# Altium schematic symbol library Connectors Molex.SchLib: 121 symbols (part 2 of 2)
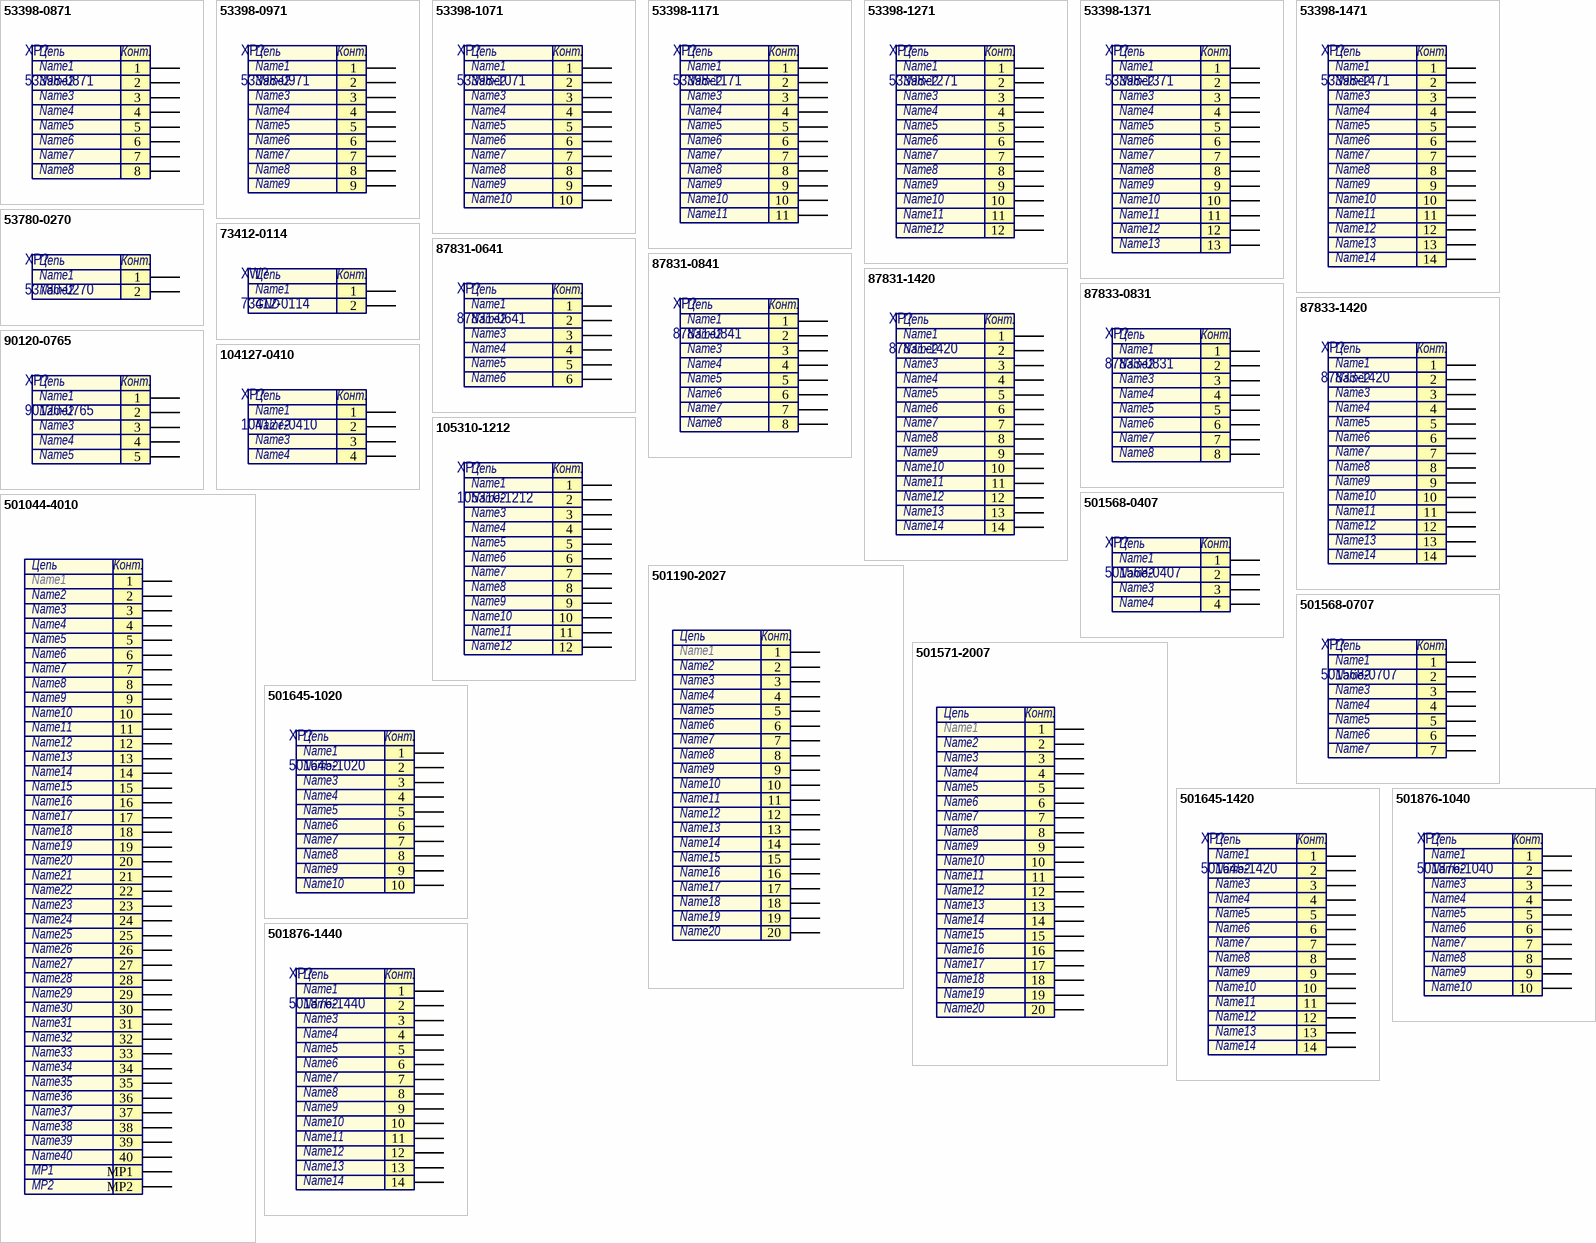
[diagram p4: symbols 53398-0871 to 501876-1440]

## 53398-1371
designator XP?  Net_name1: Name1  Net_name2: Name2  Net_name3: Name3  Net_name4: Name4  Net_name5: Name5  Net_name6: Name6  Net_name7: Name7  Net_name8: Name8  Net_name9: Name9  Net_name10: Name10  Net_name11: Name11  Net_name12: Name12  Net_name13: Name13
CONN HEADER 13POS 1.25MM VERT SMD; Manufacturer: Molex Inc; Library: Connectors Molex; Group: 9375; RegulationProcent: 10; TypeName: Вилка; Distributor: Digi-Key; DistributorPartNumber: WM7617CT-ND; LatestRevisionDate: 20.12.2014; ManufacturerPartNumber: 53398-1371; Published: 20.12.2014; Publisher: Konan D; Package: *; Code_IPC: *; Code_JEDEC: *
footprint 53398-1371 (PicoBlade™ 53398-1371)
pins: 1, 2, 3, 4, 5, 6, 7, 8, 9, 10, 11, 12, 13
text: Цепь; Конт.

## 53398-1471
designator XP?  Net_name1: Name1  Net_name2: Name2  Net_name3: Name3  Net_name4: Name4  Net_name5: Name5  Net_name6: Name6  Net_name7: Name7  Net_name8: Name8  Net_name9: Name9  Net_name10: Name10  Net_name11: Name11  Net_name12: Name12  Net_name13: Name13  Net_name14: Name14
CONN HEADER 14POS 1.25MM VERT SMD; Manufacturer: Molex Inc; Library: Connectors Molex; Group: 9375; RegulationProcent: 10; TypeName: Вилка; Distributor: Digi-Key; DistributorPartNumber: WM7618CT-ND; LatestRevisionDate: 08.07.13; ManufacturerPartNumber: 53398-1471; Published: 05.06.13; Publisher: Auchinik D; Package: *; Code_IPC: *; Code_JEDEC: *
footprint 53398-1471 (PicoBlade™ 53398-1471)
pins: 1, 2, 3, 4, 5, 6, 7, 8, 9, 10, 11, 12, 13, 14
text: Цепь; Конт.

## 53780-0270
designator XP?  Net_name1: Name1  Net_name2: Name2
CONN HEADER 2POS 1.25MM R/A SMD; Manufacturer: Molex Inc; Library: Connectors Molex; Group: 9375; RegulationProcent: 10; TypeName: Вилка; Distributor: DigiKey; DistributorPartNumber: WM7600CT-ND; LatestRevisionDate: 22.11.2017; ManufacturerPartNumber: 53780-0270; Published: 22.11.2017; Publisher: Stanchik A; Package: *; Code_IPC: *; Code_JEDEC: *
footprint 53780-0270 (PanelMate™ 53780)
pins: 1, 2
text: Цепь; Конт.

## 73412-0114
designator XW?  Net_name1: Name1  Net_name2: GND
CONN UMC RCPT STR 50 OHM SMD; Manufacturer: Molex Inc; Library: Connectors Molex; Group: 9375; RegulationProcent: 10; TypeName: Вилка коаксиальная; ManufacturerPartNumber: 73412-0114; Published: 14.05.2018; Publisher: Stanchik A; Package: *
footprint 73412-0114 (Ultra Miniature Coaxial)
pins: 1, 2
text: Цепь; Конт.

## 87831-0641
designator XP?  Net_name1: Name1  Net_name2: Name2  Net_name3: Name3  Net_name4: Name4  Net_name5: Name5  Net_name6: Name6
CONN HEADER 6POS VERT 2MM T/H; Manufacturer: Molex Inc; Library: Connectors Molex; Group: 9375; RegulationProcent: 10; TypeName: Вилка; Distributor: Digi-Key; DistributorPartNumber: WM3590-ND; LatestRevisionDate: 16.05.2017; ManufacturerPartNumber: 87831-0641; Published: 16.05.2017; Publisher: Stanchik A; Package: *; Code_IPC: *; Code_JEDEC: *
footprint 87831-0641 (Milli-Grid™ 87831-0641)
pins: 1, 2, 3, 4, 5, 6
text: Цепь; Конт.

## 87831-0841
designator XP?  Net_name1: Name1  Net_name2: Name2  Net_name3: Name3  Net_name4: Name4  Net_name5: Name5  Net_name6: Name6  Net_name7: Name7  Net_name8: Name8
CONN HEADER 8POS VERT 2MM T/H; Manufacturer: Molex Inc; Library: Connectors Molex; Group: 9375; RegulationProcent: 10; TypeName: Вилка; Distributor: Digi-Key; DistributorPartNumber: WM8611-ND; LatestRevisionDate: 20.10.2015; ManufacturerPartNumber: 87831-0841; Published: 20.10.2015; Publisher: Stanchik A; Package: *; Code_IPC: *; Code_JEDEC: *
footprint 87831-0841 (Milli-Grid™ 87831-0841)
pins: 1, 2, 3, 4, 5, 6, 7, 8
text: Цепь; Конт.

## 87831-1420
designator XP?  Net_name1: Name1  Net_name2: Name2  Net_name3: Name3  Net_name4: Name4  Net_name5: Name5  Net_name6: Name6  Net_name7: Name7  Net_name8: Name8  Net_name9: Name9  Net_name10: Name10  Net_name11: Name11  Net_name12: Name12  Net_name13: Name13  Net_name14: Name14
CONN HEADER 14POS 2MM VERT GOLD; Manufacturer: Molex Inc; Library: Connectors Molex; Group: 9375; RegulationProcent: 10; TypeName: Вилка; Distributor: Digi-Key; DistributorPartNumber: WM17469-ND; LatestRevisionDate: 23.02.2015; ManufacturerPartNumber: 87831-1420; Published: 23.02.2015; Publisher: Stanchik A; Package: *; Code_IPC: *; Code_JEDEC: *
footprint 87831-1420 (PicoBlade™ 87831-1420)
footprint 87831-1420_Alternate (Milli-Grid™ 87831-1420 Другая нумерация падов)
pins: 1, 2, 3, 4, 5, 6, 7, 8, 9, 10, 11, 12, 13, 14
text: Цепь; Конт.

## 87833-0831
designator XP?  Net_name1: Name1  Net_name2: Name2  Net_name3: Name3  Net_name4: Name4  Net_name5: Name5  Net_name6: Name6  Net_name7: Name7  Net_name8: Name8
HEADER R/A 8POS 2MM GOLD; Manufacturer: Molex Inc; Library: Connectors Molex; Group: 9375; RegulationProcent: 10; TypeName: Вилка; Distributor: Digi-Key; DistributorPartNumber: WM3597-ND; LatestRevisionDate: 16.10.2015; ManufacturerPartNumber: 87833-0831; Published: 16.10.2015; Publisher: Stanchik A; Package: *; Code_IPC: *; Code_JEDEC: *
footprint 87833-0831 (Milli-Grid™ 87833-0831)
pins: 1, 2, 3, 4, 5, 6, 7, 8
text: Цепь; Конт.

## 87833-1420
designator XP?  Net_name1: Name1  Net_name2: Name2  Net_name3: Name3  Net_name4: Name4  Net_name5: Name5  Net_name6: Name6  Net_name7: Name7  Net_name8: Name8  Net_name9: Name9  Net_name10: Name10  Net_name11: Name11  Net_name12: Name12  Net_name13: Name13  Net_name14: Name14
CONN HEADER 14POS 2MM R/A GOLD; Manufacturer: Molex Inc; Library: Connectors Molex; Group: 9375; RegulationProcent: 10; TypeName: Вилка; ManufacturerPartNumber: 87833-1420; Published: 21.08.2018; Publisher: Stanchik A; Package: *
footprint 87833-1420 (Milli-Grid™ 87833)
pins: 1, 2, 3, 4, 5, 6, 7, 8, 9, 10, 11, 12, 13, 14
text: Цепь; Конт.

## 90120-0765
designator XP?  Net_name1: Name1  Net_name2: Name2  Net_name3: Name3  Net_name4: Name4  Net_name5: Name5
PIN HEADER 2.54 MM, STR., PH, 1 X 5; Manufacturer: Molex; Library: Connectors Molex; Value: 5; Group: 9375; RegulationProcent: 10; TypeName: Вилка; Distributor: FARNELL; DistributorPartNumber: 1756964; LatestRevisionDate: 09.03.2015; ManufacturerPartNumber: 90120-0765; Published: 09.03.2015; Publisher: Stanchik A; Package: *; Code_IPC: *; Code_JEDEC: *
footprint 90120-0765 (Molex 90120-0765)
pins: 1, 2, 3, 4, 5
text: Цепь; Конт.

## 104127-0410
designator XP?  Net_name1: Name1  Net_name2: Name2  Net_name3: Name3  Net_name4: Name4
10MM WTOB CONN HEADER ASS'Y 4P; Manufacturer: Molex Inc; Library: Connectors Molex; Group: 9375; RegulationProcent: 10; TypeName: Вилка; Distributor: Digi-Key; DistributorPartNumber: 1041270410-ND; LatestRevisionDate: 19.04.2017; ManufacturerPartNumber: 104127-0410; Published: 19.04.2017; Publisher: Stanchik A; Package: *; Code_IPC: *; Code_JEDEC: *
footprint 104127-0410 (IllumiMate™ 104127)
pins: 1, 2, 3, 4
text: Цепь; Конт.

## 105310-1212
designator XP?  Net_name1: Name1  Net_name2: Name2  Net_name3: Name3  Net_name4: Name4  Net_name5: Name5  Net_name6: Name6  Net_name7: Name7  Net_name8: Name8  Net_name9: Name9  Net_name10: Name10  Net_name11: Name11  Net_name12: Name12
NANO-FIT HDR VT DLR KNK 12CKT 15; Manufacturer: Molex Inc; Library: Connectors Molex; Group: 9375; RegulationProcent: 10; TypeName: Вилка; ManufacturerPartNumber: 105310-1212; Published: 28.05.2018; Publisher: Stanchik A; Package: *
footprint 105310-1212 (Nano-Fit™ 105310)
pins: 1, 2, 3, 4, 5, 6, 7, 8, 9, 10, 11, 12
text: Цепь; Конт.

## 501044-4010
designator XP?  Net_name1: Name1  Net_name2: Name2  Net_name3: Name3  Net_name4: Name4  Net_name5: Name5  Net_name6: Name6  Net_name7: Name7  Net_name8: Name8  Net_name9: Name9  Net_name10: Name10  Net_name11: Name11  Net_name12: Name12  Net_name13: Name13  Net_name14: Name14  Net_name15: Name15  Net_name16: Name16  Net_name17: Name17  Net_name18: Name18  Net_name19: Name19  Net_name20: Name20  Net_name21: Name21  Net_name22: Name22  Net_name23: Name23  Net_name24: Name24  Net_name25: Name25  Net_name26: Name26  Net_name27: Name27  Net_name28: Name28  Net_name29: Name29  Net_name30: Name30  Net_name31: Name31  Net_name32: Name32  Net_name33: Name33  Net_name34: Name34  Net_name35: Name35  Net_name36: Name36  Net_name37: Name37  Net_name38: Name38  Net_name39: Name39  Net_name40: Name40  Net_name41: MP1  Net_name42: MP2
400UM WTB REC HSG ASSY 40CKT; Manufacturer: Molex Inc; Library: Connectors Molex; Group: 9375; RegulationProcent: 10; TypeName: Вилка; Distributor: Mouser; DistributorPartNumber: 538-501044-4010; LatestRevisionDate: 22.11.2017; ManufacturerPartNumber: 501044-4010; Package: *; Published: 22.11.2017; Publisher: Stanchik A; Code_IPC: *; Code_JEDEC: *
footprint 501044-4010 (501044)
pins: 1, 2, 3, 4, 5, 6, 7, 8, 9, 10, 11, 12, 13, 14, 15, 16, 17, 18, 19, 20, 21, 22, 23, 24, 25, 26, 27, 28, 29, 30, 31, 32, 33, 34, 35, 36, 37, 38, 39, 40, MP1, MP2
text: Цепь; Конт.

## 501190-2027
designator XP?  Net_name1: Name1  Net_name2: Name2  Net_name3: Name3  Net_name4: Name4  Net_name5: Name5  Net_name6: Name6  Net_name7: Name7  Net_name8: Name8  Net_name9: Name9  Net_name10: Name10  Net_name11: Name11  Net_name12: Name12  Net_name13: Name13  Net_name14: Name14  Net_name15: Name15  Net_name16: Name16  Net_name17: Name17  Net_name18: Name18  Net_name19: Name19  Net_name20: Name20
CONN HEADER 20CKT 1MM VERT DUAL; Manufacturer: Molex; Library: Connectors Molex; Group: 9375; RegulationProcent: 10; TypeName: Вилка; Distributor: Mouser; DistributorPartNumber: 1835996; LatestRevisionDate: 11.04.2016; ManufacturerPartNumber: 501190-2027; Package: *; Published: 11.04.2016; Publisher: Stanchik A; Code_IPC: *; Code_JEDEC: *
footprint 501190-2027 (Pico-Clasp™ 501190)
pins: 1, 2, 3, 4, 5, 6, 7, 8, 9, 10, 11, 12, 13, 14, 15, 16, 17, 18, 19, 20
text: Цепь; Конт.

## 501568-0407
designator XP?  Net_name1: Name1  Net_name2: Name2  Net_name3: Name3  Net_name4: Name4
CONN HEADER 1MM 4POS SMD R/A; Manufacturer: Molex Inc; Library: Connectors Molex; Group: 9375; RegulationProcent: 10; TypeName: Вилка; Distributor: Digi-Key; DistributorPartNumber: WM7895CT-ND; LatestRevisionDate: 12.09.2016; ManufacturerPartNumber: 501568-0407; Published: 12.09.2016; Publisher: Stanchik A; Package: *; Code_IPC: *; Code_JEDEC: *
footprint 501568-0407 (Pico-Clasp™ 501568)
pins: 1, 2, 3, 4
text: Цепь; Конт.

## 501568-0707
designator XP?  Net_name1: Name1  Net_name2: Name2  Net_name3: Name3  Net_name4: Name4  Net_name5: Name5  Net_name6: Name6  Net_name7: Name7
CONN HEADER 1MM 7POS SMD R/A; Manufacturer: Molex Inc; Library: Connectors Molex; Group: 9375; RegulationProcent: 10; TypeName: Вилка; Distributor: Mouser; DistributorPartNumber: 538-501568-0707; LatestRevisionDate: 12.09.2016; ManufacturerPartNumber: 501568-0707; Published: 12.09.2016; Publisher: Stanchik A; Package: *; Code_IPC: *; Code_JEDEC: *
footprint 501568-0707 (Pico-Clasp™ 501568)
pins: 1, 2, 3, 4, 5, 6, 7
text: Цепь; Конт.

## 501571-2007
designator XP?  Net_name1: Name1  Net_name2: Name2  Net_name3: Name3  Net_name4: Name4  Net_name5: Name5  Net_name6: Name6  Net_name7: Name7  Net_name8: Name8  Net_name9: Name9  Net_name10: Name10  Net_name11: Name11  Net_name12: Name12  Net_name13: Name13  Net_name14: Name14  Net_name15: Name15  Net_name16: Name16  Net_name17: Name17  Net_name18: Name18  Net_name19: Name19  Net_name20: Name20
CONN HEADER 1MM 20POS SMD R/A AU; Manufacturer: Molex; Library: Connectors Molex; Group: 9375; RegulationProcent: 10; TypeName: Вилка; Distributor: Digi-Key; DistributorPartNumber: WM7911CT-ND; LatestRevisionDate: 12.04.2016; ManufacturerPartNumber: 501571-2007; Package: *; Published: 12.04.2016; Publisher: Stanchik A; Code_IPC: *; Code_JEDEC: *
footprint 501571-2007 (Pico-Clasp™ 501571)
pins: 1, 2, 3, 4, 5, 6, 7, 8, 9, 10, 11, 12, 13, 14, 15, 16, 17, 18, 19, 20
text: Цепь; Конт.

## 501645-1020
designator XP?  Net_name1: Name1  Net_name2: Name2  Net_name3: Name3  Net_name4: Name4  Net_name5: Name5  Net_name6: Name6  Net_name7: Name7  Net_name8: Name8  Net_name9: Name9  Net_name10: Name10
CONN HEADER 10POS 2MM VERT TIN; Manufacturer: Molex Inc; Library: Connectors Molex; Group: 9375; RegulationProcent: 10; TypeName: Вилка; Distributor: Digi-Key; DistributorPartNumber: WM6072-ND; LatestRevisionDate: 01.04.2016; ManufacturerPartNumber: 501645-1020; Published: 01.04.2016; Publisher: Stanchik A; Package: *; Code_IPC: *; Code_JEDEC: *
footprint 501645-1020 (iGrid™ 501645)
pins: 1, 2, 3, 4, 5, 6, 7, 8, 9, 10
text: Цепь; Конт.

## 501645-1420
designator XP?  Net_name1: Name1  Net_name2: Name2  Net_name3: Name3  Net_name4: Name4  Net_name5: Name5  Net_name6: Name6  Net_name7: Name7  Net_name8: Name8  Net_name9: Name9  Net_name10: Name10  Net_name11: Name11  Net_name12: Name12  Net_name13: Name13  Net_name14: Name14
CONN HEADER 14POS 2MM VERT TIN; Manufacturer: Molex Inc; Library: Connectors Molex; Group: 9375; RegulationProcent: 10; TypeName: Вилка; Distributor: Digi-Key; DistributorPartNumber: WM6074-ND; LatestRevisionDate: 30.03.2016; ManufacturerPartNumber: 501645-1420; Published: 30.03.2016; Publisher: Stanchik A; Package: *; Code_IPC: *; Code_JEDEC: *
footprint 501645-1420 (iGrid™ 501645)
pins: 1, 2, 3, 4, 5, 6, 7, 8, 9, 10, 11, 12, 13, 14
text: Цепь; Конт.

## 501876-1040
designator XP?  Net_name1: Name1  Net_name2: Name2  Net_name3: Name3  Net_name4: Name4  Net_name5: Name5  Net_name6: Name6  Net_name7: Name7  Net_name8: Name8  Net_name9: Name9  Net_name10: Name10
CONN HEADER 10POS 2MM R/A TIN; Manufacturer: Molex Inc; Library: Connectors Molex; Group: 9375; RegulationProcent: 10; TypeName: Вилка; Distributor: Digi-Key; DistributorPartNumber: WM6086-ND; LatestRevisionDate: 01.04.2016; ManufacturerPartNumber: 501876-1040; Published: 01.04.2016; Publisher: Stanchik A; Package: *; Code_IPC: *; Code_JEDEC: *
footprint 501876-1040 (iGrid™ 501876)
pins: 1, 2, 3, 4, 5, 6, 7, 8, 9, 10
text: Цепь; Конт.

## 501876-1440
designator XP?  Net_name1: Name1  Net_name2: Name2  Net_name3: Name3  Net_name4: Name4  Net_name5: Name5  Net_name6: Name6  Net_name7: Name7  Net_name8: Name8  Net_name9: Name9  Net_name10: Name10  Net_name11: Name11  Net_name12: Name12  Net_name13: Name13  Net_name14: Name14
CONN HEADER 14POS 2MM R/A TIN; Manufacturer: Molex Inc; Library: Connectors Molex; Group: 9375; RegulationProcent: 10; TypeName: Вилка; Distributor: Digi-Key; DistributorPartNumber: WM6088-ND; LatestRevisionDate: 30.03.2016; ManufacturerPartNumber: 501876-1440; Published: 30.03.2016; Publisher: Stanchik A; Package: *; Code_IPC: *; Code_JEDEC: *
footprint 501876-1440 (iGrid™ 501876)
pins: 1, 2, 3, 4, 5, 6, 7, 8, 9, 10, 11, 12, 13, 14
text: Цепь; Конт.

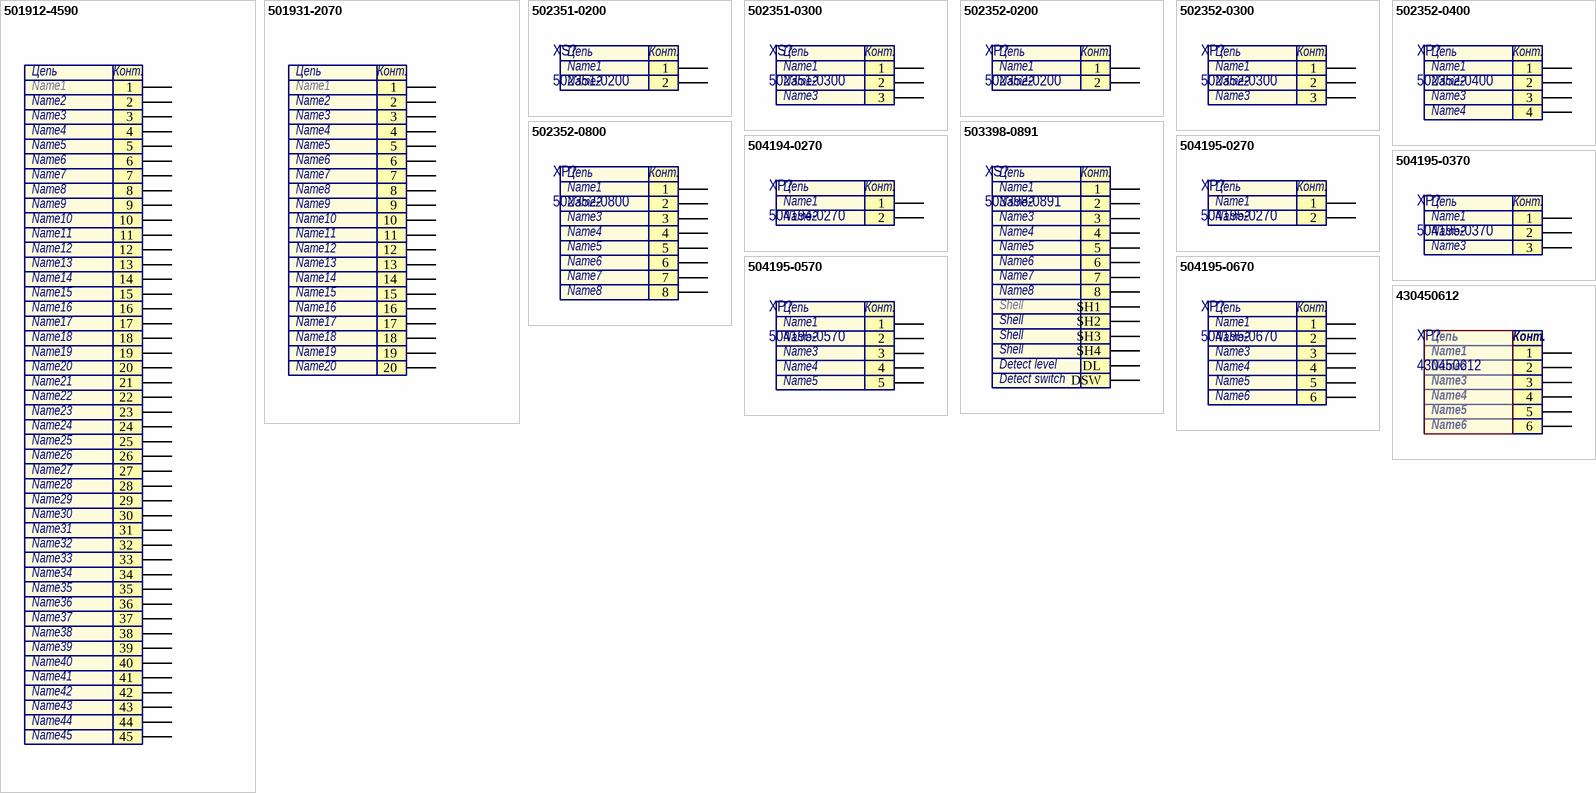
[diagram p3: symbols 501912-4590 to 430450612]

## 501912-4590
designator XS?  Net_name1: Name1  Net_name2: Name2  Net_name3: Name3  Net_name4: Name4  Net_name5: Name5  Net_name6: Name6  Net_name7: Name7  Net_name8: Name8  Net_name9: Name9  Net_name10: Name10  Net_name11: Name11  Net_name12: Name12  Net_name13: Name13  Net_name14: Name14  Net_name15: Name15  Net_name16: Name16  Net_name17: Name17  Net_name18: Name18  Net_name19: Name19  Net_name20: Name20  Net_name21: Name21  Net_name22: Name22  Net_name23: Name23  Net_name24: Name24  Net_name25: Name25  Net_name26: Name26  Net_name27: Name27  Net_name28: Name28  Net_name29: Name29  Net_name30: Name30  Net_name31: Name31  Net_name32: Name32  Net_name33: Name33  Net_name34: Name34  Net_name35: Name35  Net_name36: Name36  Net_name37: Name37  Net_name38: Name38  Net_name39: Name39  Net_name40: Name40  Net_name41: Name41  Net_name42: Name42  Net_name43: Name43  Net_name44: Name44  Net_name45: Name45
CONN FPC .3MM 45POS R/A SMD; Manufacturer: Molex; Library: Connectors Molex; Group: 9380; RegulationProcent: 10; TypeName: Розетка; Distributor: Digi-Key; DistributorPartNumber: WM2219-ND; LatestRevisionDate: 18.11.2014; ManufacturerPartNumber: 501912-4590; Package: *; Published: 18.11.2014; Publisher: Stanchik A; Code_IPC: *; Code_JEDEC: *
footprint 501912-4590 (CONN FPC .3MM 45POS R/A SMD)
pins: 1, 2, 3, 4, 5, 6, 7, 8, 9, 10, 11, 12, 13, 14, 15, 16, 17, 18, 19, 20, 21, 22, 23, 24, 25, 26, 27, 28, 29, 30, 31, 32, 33, 34, 35, 36, 37, 38, 39, 40, 41, 42, 43, 44, 45
text: Цепь; Конт.

## 501931-2070
designator XS?  Net_name1: Name1  Net_name2: Name2  Net_name3: Name3  Net_name4: Name4  Net_name5: Name5  Net_name6: Name6  Net_name7: Name7  Net_name8: Name8  Net_name9: Name9  Net_name10: Name10  Net_name11: Name11  Net_name12: Name12  Net_name13: Name13  Net_name14: Name14  Net_name15: Name15  Net_name16: Name16  Net_name17: Name17  Net_name18: Name18  Net_name19: Name19  Net_name20: Name20
1.25MM WTB RCPT DUAL VERT 20POS; Manufacturer: Molex; Library: Connectors Molex; Group: 9380; RegulationProcent: 10; TypeName: Розетка; Distributor: Digi-Key; DistributorPartNumber: WM4612CT-ND; LatestRevisionDate: 11.04.2016; ManufacturerPartNumber: 501931-2070; Package: *; Published: 11.04.2016; Publisher: Stanchik A; Code_IPC: *; Code_JEDEC: *
footprint 501931-2070 (Duo-Clasp™ 501931)
pins: 1, 2, 3, 4, 5, 6, 7, 8, 9, 10, 11, 12, 13, 14, 15, 16, 17, 18, 19, 20
text: Цепь; Конт.

## 502351-0200
designator XS?  Net_name1: Name1  Net_name2: Name2
CONN RCPT HSG 2POS W/B 2.0MM; Manufacturer: Molex Inc; Library: Connectors Molex; Group: 9380; RegulationProcent: 10; TypeName: Розетка; Distributor: Digi-Key; DistributorPartNumber: WM10793-ND; LatestRevisionDate: 03.04.2017; ManufacturerPartNumber: 502351-0200; Published: 03.04.2017; Publisher: Stanchik A; Package: *; Code_IPC: *; Code_JEDEC: *
3D model 5023510200 (PCB3D Model)
pins: 1, 2
text: Цепь; Конт.

## 502351-0300
designator XS?  Net_name1: Name1  Net_name2: Name2  Net_name3: Name3
CONN RCPT HSG 3POS W/B 2.0MM; Manufacturer: Molex Inc; Library: Connectors Molex; Group: 9380; RegulationProcent: 10; TypeName: Розетка; Distributor: Digi-Key; DistributorPartNumber: WM11229-ND; LatestRevisionDate: 03.04.2017; ManufacturerPartNumber: 502351-0300; Published: 03.04.2017; Publisher: Stanchik A; Package: *; Code_IPC: *; Code_JEDEC: *
3D model 5023510300 (PCB3D Model)
pins: 1, 2, 3
text: Цепь; Конт.

## 502352-0200
designator XP?  Net_name1: Name1  Net_name2: Name2
CONN HEADER 2POS 2MM R/A SMD; Manufacturer: Molex Inc; Library: Connectors Molex; Group: 9375; RegulationProcent: 10; TypeName: Вилка; Distributor: Digi-Key; DistributorPartNumber: WM7169CT-ND; LatestRevisionDate: 03.04.2017; ManufacturerPartNumber: 502352-0200; Published: 03.04.2017; Publisher: Stanchik A; Package: *; Code_IPC: *; Code_JEDEC: *
footprint 502352-0200 (DuraClik™ 502352)
pins: 1, 2
text: Цепь; Конт.

## 502352-0300
designator XP?  Net_name1: Name1  Net_name2: Name2  Net_name3: Name3
CONN HEADER 3POS 2MM R/A SMD; Manufacturer: Molex Inc; Library: Connectors Molex; Group: 9375; RegulationProcent: 10; TypeName: Вилка; Distributor: Digi-Key; DistributorPartNumber: WM10858CT-ND; LatestRevisionDate: 03.04.2017; ManufacturerPartNumber: 502352-0300; Published: 03.04.2017; Publisher: Stanchik A; Package: *; Code_IPC: *; Code_JEDEC: *
footprint 502352-0300 (DuraClik™ 502352)
pins: 1, 2, 3
text: Цепь; Конт.

## 502352-0400
designator XP?  Net_name1: Name1  Net_name2: Name2  Net_name3: Name3  Net_name4: Name4
CONN HEADER 4POS 2MM R/A SMD; Manufacturer: Molex Inc; Library: Connectors Molex; Group: 9375; RegulationProcent: 10; TypeName: Вилка; Distributor: Digi-Key; DistributorPartNumber: WM7171CT-ND; LatestRevisionDate: 27.04.2016; ManufacturerPartNumber: 502352-0400; Published: 27.04.2016; Publisher: Stanchik A; Package: *; Code_IPC: *; Code_JEDEC: *
footprint 502352-0400 (DuraClik™ 502352)
pins: 1, 2, 3, 4
text: Цепь; Конт.

## 502352-0800
designator XP?  Net_name1: Name1  Net_name2: Name2  Net_name3: Name3  Net_name4: Name4  Net_name5: Name5  Net_name6: Name6  Net_name7: Name7  Net_name8: Name8
CONN HEADER 8POS 2MM R/A SMD; Manufacturer: Molex Inc; Library: Connectors Molex; Group: 9375; RegulationProcent: 10; TypeName: Вилка; Distributor: Digi-Key; DistributorPartNumber: WM7175CT-ND; LatestRevisionDate: 27.04.2016; ManufacturerPartNumber: 502352-0800; Published: 27.04.2016; Publisher: Stanchik A; Package: *; Code_IPC: *; Code_JEDEC: *
footprint 502352-0800 (DuraClik™ 502352)
pins: 1, 2, 3, 4, 5, 6, 7, 8
text: Цепь; Конт.

## 503398-0891
designator XS?  Net_name9: Shell  Net_name1: Name1  Net_name2: Name2  Net_name3: Name3  Net_name4: Name4  Net_name5: Name5  Net_name6: Name6  Net_name7: Name7  Net_name8: Name8  Net_name13: Detect level  Net_name14: Detect switch
CONN MICRO SD CARD PUSH-PUSH R/A; Manufacturer: Molex Inc; Library: Connectors Molex; Group: 9380; RegulationProcent: 10; TypeName: Розетка; Distributor: Digi-Key; DistributorPartNumber: WM6377CT-ND; LatestRevisionDate: 09.01.2015; ManufacturerPartNumber: 503398-0891; Published: 09.01.2015; Publisher: Stanchik A; Package: *; Code_IPC: *; Code_JEDEC: *; Net_name10: Shell; Net_name11: Shell; Net_name12: Shell
footprint 503398-0891 (MICRO SD CARD PUSH-PUSH R/A)
pins: 1, 2, 3, 4, 5, 6, 7, 8, 9 SH1, 10 SH2, 11 SH3, 12 SH4, 13 DL, 14 DSW
text: Цепь; Конт.

## 504194-0270
designator XP?  Net_name1: Name1  Net_name2: Name2
1.25MM VERT HDR 2CKT SINGLE ROW; Manufacturer: Molex Inc; Library: Connectors Molex; Group: 9375; RegulationProcent: 10; TypeName: Вилка; Distributor: DigiKey; DistributorPartNumber: WM10578CT-ND; LatestRevisionDate: 19.03.2018; ManufacturerPartNumber: 504194-0270; Published: 19.03.2018; Publisher: Stanchik A; Package: *; Code_IPC: *; Code_JEDEC: *
footprint 504194-0270 (Micro-Lock™ 504194)
pins: 1, 2
text: Цепь; Конт.

## 504195-0270
designator XP?  Net_name1: Name1  Net_name2: Name2
1.25MM RA HDR 2CKT SINGLE ROW; Manufacturer: Molex Inc; Library: Connectors Molex; Group: 9375; RegulationProcent: 10; TypeName: Вилка; Distributor: DigiKey; DistributorPartNumber: WM10583CT-ND; LatestRevisionDate: 01.10.2015; ManufacturerPartNumber: 504195-0270; Published: 01.10.2015; Publisher: Stanchik A; Package: *; Code_IPC: *; Code_JEDEC: *
footprint 504195-0270 (Micro-Lock™ 504195-0270)
pins: 1, 2
text: Цепь; Конт.

## 504195-0370
designator XP?  Net_name1: Name1  Net_name2: Name2  Net_name3: Name3
1.25MM RA HDR 3CKT SINGLE ROW; Manufacturer: Molex Inc; Library: Connectors Molex; Group: 9375; RegulationProcent: 10; TypeName: Вилка; Distributor: Digi-Key; DistributorPartNumber: WM10584CT-ND; LatestRevisionDate: 06.02.2018; ManufacturerPartNumber: 504195-0370; Published: 06.02.2018; Publisher: Stanchik A; Package: *; Code_IPC: *; Code_JEDEC: *
footprint 504195-0370 (Micro-Lock™ 504195-0370)
pins: 1, 2, 3
text: Цепь; Конт.

## 504195-0570
designator XP?  Net_name1: Name1  Net_name2: Name2  Net_name3: Name3  Net_name4: Name4  Net_name5: Name5
1.25MM RA HDR 5CKT SINGLE ROW; Manufacturer: Molex Inc; Library: Connectors Molex; Group: 9375; RegulationProcent: 10; TypeName: Вилка; Distributor: Digi-Key; DistributorPartNumber: WM10586CT-ND; LatestRevisionDate: 01.10.2015; ManufacturerPartNumber: 504195-0570; Published: 01.10.2015; Publisher: Stanchik A; Package: *; Code_IPC: *; Code_JEDEC: *
footprint 504195-0570 (Micro-Lock™ 504195-0570)
pins: 1, 2, 3, 4, 5
text: Цепь; Конт.

## 504195-0670
designator XP?  Net_name1: Name1  Net_name2: Name2  Net_name3: Name3  Net_name4: Name4  Net_name5: Name5  Net_name6: Name6
1.25MM RA HDR 6CKT SINGLE ROW; Manufacturer: Molex Inc; Library: Connectors Molex; Group: 9375; RegulationProcent: 10; TypeName: Вилка; Distributor: Digi-Key; DistributorPartNumber: WM10587CT-ND; LatestRevisionDate: 16.10.2015; ManufacturerPartNumber: 504195-0670; Published: 16.10.2015; Publisher: Stanchik A; Package: *; Code_IPC: *; Code_JEDEC: *
footprint 504195-0670 (Micro-Lock™ 504195-0670)
pins: 1, 2, 3, 4, 5, 6
text: Цепь; Конт.

## 430450612
designator XP?  Net_name6: Name6  Net_name5: Name5  Net_name1: Name1  Net_name2: Name2  Net_name3: Name3  Net_name4: Name4
CONN HEADER 6POS 3MM VERT TIN; Manufacturer: Molex Inc; Library: Connectors Molex; Group: 9375; RegulationProcent: 10; TypeName: Вилка; Distributor: Digi-Key; ManufacturerPartNumber: 430450612; Package: *; Code_IPC: *; Code_JEDEC: *
footprint 430450612 (Micro-Fit 3.0™ 43045)
pins: 1, 2, 3, 4, 5, 6
text: Цепь; Конт.